# Altium footprint library QFP80P900X900X160-32N.PcbLib: 1 footprints
Each footprint in its own frame and in the unit in brackets; x right, y up, seen from the top. Pads: shape width x height; smd on the part's side, far side on the other; paste and mask are expansions set on the pad; w line width, h text height; cw(c..) or ccw(c..) is an arc to the next point about the centre after c.
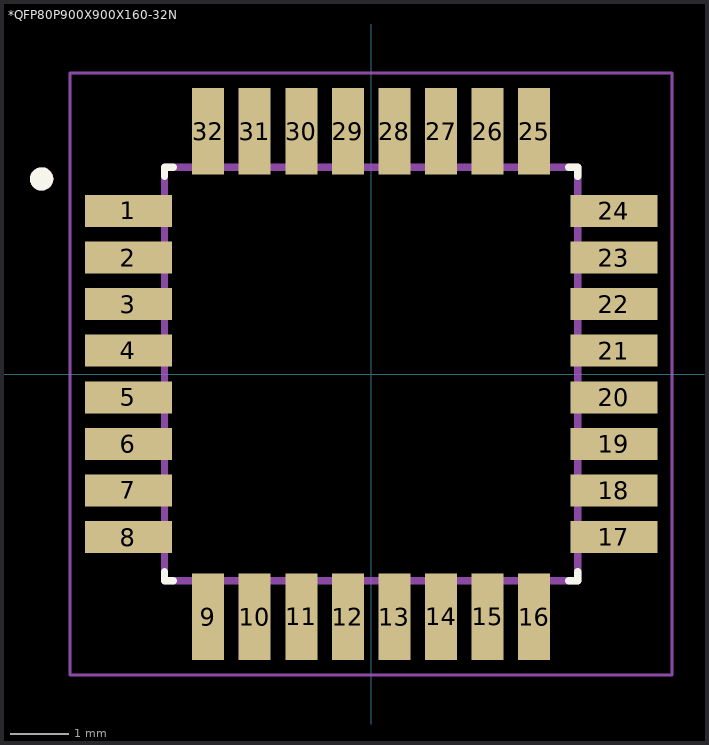
[diagram p0: the footprint, top view; thin cyan lines are the x and y axes]

## *QFP80P900X900X160-32N [mm]
pads (32):
  rect 1.49x0.55 smd: 1(-4.17,2.8) 2(-4.17,2) 3(-4.17,1.2) 4(-4.17,0.4) 5(-4.17,-0.4) 6(-4.17,-1.2) 7(-4.17,-2) 8(-4.17,-2.8) 17(4.17,-2.8) 18(4.17,-2) 19(4.17,-1.2) 20(4.17,-0.4) 21(4.17,0.4) 22(4.17,1.2) 23(4.17,2) 24(4.17,2.8)
  rect 0.55x1.49 smd: 9(-2.8,-4.17) 10(-2,-4.17) 11(-1.2,-4.17) 12(-0.4,-4.17) 13(0.4,-4.17) 14(1.2,-4.17) 15(2,-4.17) 16(2.8,-4.17) 25(2.8,4.17) 26(2,4.17) 27(1.2,4.17) 28(0.4,4.17) 29(-0.4,4.17) 30(-1.2,4.17) 31(-2,4.17) 32(-2.8,4.17)
Top Overlay:
  circle w0.2: c-5.66,3.35 r0.1
  lines w0.127: -3.55,-3.395 -3.55,-3.55 -3.395,-3.55 ; -3.55,3.395 -3.55,3.55 -3.395,3.55 ; 3.395,-3.55 3.55,-3.55 3.55,-3.395 ; 3.395,3.55 3.55,3.55 3.55,3.395
Mechanical 4:
  circle w0.2: c-5.66,3.35 r0.1
  circle w0.2: c-5.66,3.35 r0.1
  lines w0.127: -3.55,-3.55 -3.55,3.55 ; -3.55,-3.55 3.55,-3.55 ; -3.55,-3.55 -3.55,3.55 ; -3.55,-3.55 3.55,-3.55 ; -3.55,3.55 3.55,3.55 ; -3.55,3.55 3.55,3.55 ; 3.55,-3.55 3.55,3.55 ; 3.55,-3.55 3.55,3.55
Mechanical 16:
  lines w0.05: -5.17,-5.17 -5.17,5.17 5.17,5.17 5.17,-5.17 -5.17,-5.17
3D body "User Library-lqfp32-1.STEP": height 1.5, standoff 0.02, extent -4.5,-4.5 4.5,4.5